# Altium integrated library Texas Instruments Interface RS-232.IntLib: 1272 symbols (part 20 of 37)
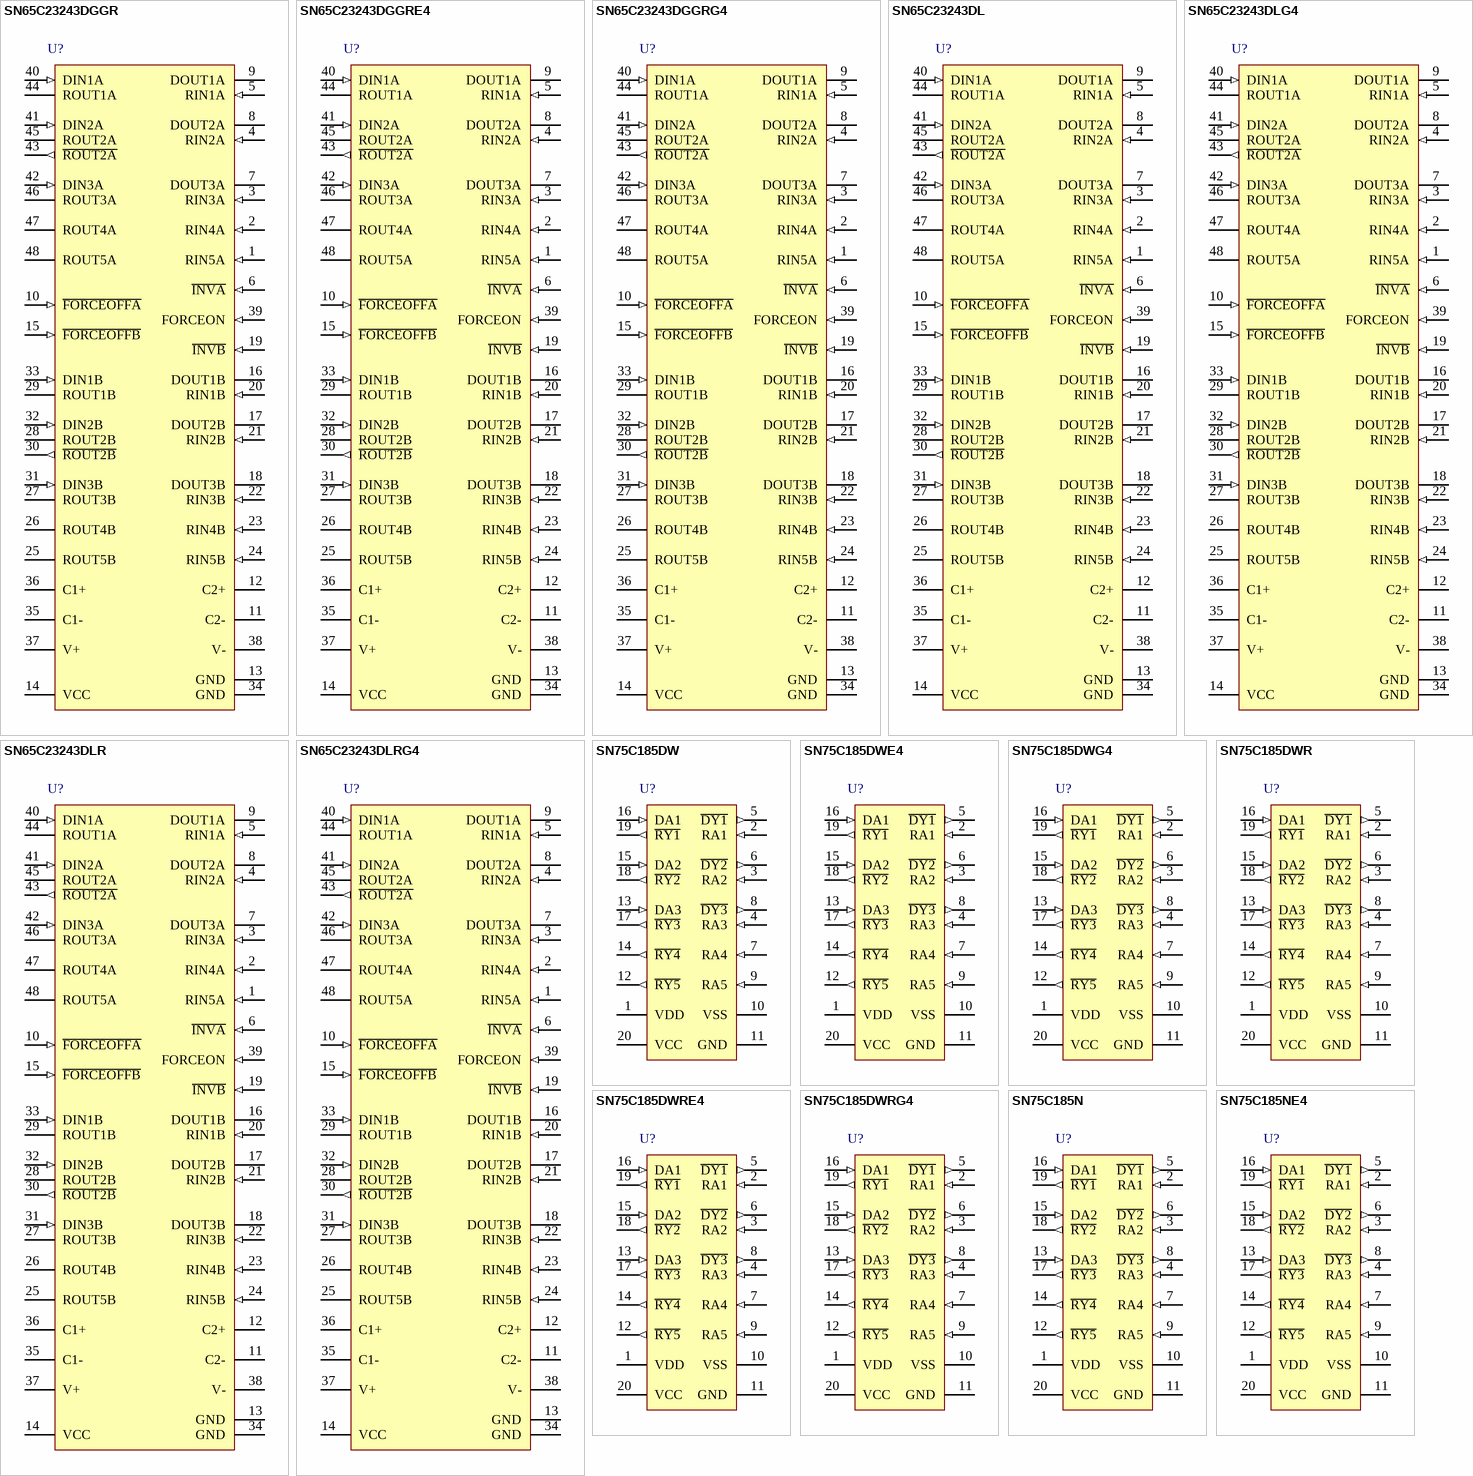
[diagram p73: symbols SN65C23243DGGR to SN75C185NE4]

## SN75C185DWE4
designator U?
Low-Power Multiple Driver / Receiver, 0 to 70 degC, 20-Pin SOIC (DW), Green (RoHS & no Sb/Br); SubFamily: RS-232; Drivers Per Package: 3; Receivers Per Package: 5; Supply Voltage(s)(V): +/-12.0 & 5.0; ESD HBM(kV): +/-2; ICC(Max)(mA): +/-0.25 & 0.75; RS-232: TRUE; DatasheetVersion: SLLS065F; PackageVersion: revG, Jan-2011; PackageReference: DW20; PackageDescription: 20-Pin Plastic Small Outline Integrated Circuit, 12.8 x 7.5 mm, Pitch 1.27 mm Pitch; ComponentLink1Description: Manufacturer URL; ComponentLink1URL: www.ti.com; ComponentLink2Description: Datasheet; ComponentLink2URL: http://www.ti.com/general/docs/lit/getliterature.tsp?genericPartNumber=SN75C185&fileType=pdf; ComponentLink3Description: Package Specification; ComponentLink3URL: http://www.ti.com/litv/pdf/mpds173a
footprint TI-DW20_N (SOIC, 20-Leads, Body 12.8x7.5mm, Pitch 1.27mm, IPC Medium Density)
footprint TI-DW20_L (SOIC, 20-Leads, Body 12.8x7.5mm, Pitch 1.27mm, IPC High Density)
footprint TI-DW20_M (SOIC, 20-Leads, Body 12.8x7.5mm, Pitch 1.27mm, IPC Low Density)
pins: 1 VDD (power), 2 RA1 (in), 3 RA2 (in), 4 RA3 (in), 5 ~{DY1} (out), 6 ~{DY2} (out), 7 RA4 (in), 8 ~{DY3} (out), 9 RA5 (in), 10 VSS (power), 11 GND (power), 12 ~{RY5} (out), 13 DA3 (in), 14 ~{RY4} (out), 15 DA2 (in), 16 DA1 (in), 17 ~{RY3} (out), 18 ~{RY2} (out), 19 ~{RY1} (out), 20 VCC (power)

## SN75C185DWG4
designator U?
Low-Power Multiple Driver / Receiver, 0 to 70 degC, 20-Pin SOIC (DW), Green (RoHS & no Sb/Br); SubFamily: RS-232; Drivers Per Package: 3; Receivers Per Package: 5; Supply Voltage(s)(V): +/-12.0 & 5.0; ESD HBM(kV): +/-2; ICC(Max)(mA): +/-0.25 & 0.75; RS-232: TRUE; DatasheetVersion: SLLS065F; PackageVersion: revG, Jan-2011; PackageReference: DW20; PackageDescription: 20-Pin Plastic Small Outline Integrated Circuit, 12.8 x 7.5 mm, Pitch 1.27 mm Pitch; ComponentLink1Description: Manufacturer URL; ComponentLink1URL: www.ti.com; ComponentLink2Description: Datasheet; ComponentLink2URL: http://www.ti.com/general/docs/lit/getliterature.tsp?genericPartNumber=SN75C185&fileType=pdf; ComponentLink3Description: Package Specification; ComponentLink3URL: http://www.ti.com/litv/pdf/mpds173a
footprint TI-DW20_N (SOIC, 20-Leads, Body 12.8x7.5mm, Pitch 1.27mm, IPC Medium Density)
footprint TI-DW20_L (SOIC, 20-Leads, Body 12.8x7.5mm, Pitch 1.27mm, IPC High Density)
footprint TI-DW20_M (SOIC, 20-Leads, Body 12.8x7.5mm, Pitch 1.27mm, IPC Low Density)
pins: 1 VDD (power), 2 RA1 (in), 3 RA2 (in), 4 RA3 (in), 5 ~{DY1} (out), 6 ~{DY2} (out), 7 RA4 (in), 8 ~{DY3} (out), 9 RA5 (in), 10 VSS (power), 11 GND (power), 12 ~{RY5} (out), 13 DA3 (in), 14 ~{RY4} (out), 15 DA2 (in), 16 DA1 (in), 17 ~{RY3} (out), 18 ~{RY2} (out), 19 ~{RY1} (out), 20 VCC (power)

## SN75C185DWR
designator U?
Low-Power Multiple Driver / Receiver, 0 to 70 degC, 20-Pin SOIC (DW), Green (RoHS & no Sb/Br); SubFamily: RS-232; Drivers Per Package: 3; Receivers Per Package: 5; Supply Voltage(s)(V): +/-12.0 & 5.0; ESD HBM(kV): +/-2; ICC(Max)(mA): +/-0.25 & 0.75; RS-232: TRUE; DatasheetVersion: SLLS065F; PackageVersion: revG, Jan-2011; PackageReference: DW20; PackageDescription: 20-Pin Plastic Small Outline Integrated Circuit, 12.8 x 7.5 mm, Pitch 1.27 mm Pitch; ComponentLink1Description: Manufacturer URL; ComponentLink1URL: www.ti.com; ComponentLink2Description: Datasheet; ComponentLink2URL: http://www.ti.com/general/docs/lit/getliterature.tsp?genericPartNumber=SN75C185&fileType=pdf; ComponentLink3Description: Package Specification; ComponentLink3URL: http://www.ti.com/litv/pdf/mpds173a
footprint TI-DW20_N (SOIC, 20-Leads, Body 12.8x7.5mm, Pitch 1.27mm, IPC Medium Density)
footprint TI-DW20_L (SOIC, 20-Leads, Body 12.8x7.5mm, Pitch 1.27mm, IPC High Density)
footprint TI-DW20_M (SOIC, 20-Leads, Body 12.8x7.5mm, Pitch 1.27mm, IPC Low Density)
pins: 1 VDD (power), 2 RA1 (in), 3 RA2 (in), 4 RA3 (in), 5 ~{DY1} (out), 6 ~{DY2} (out), 7 RA4 (in), 8 ~{DY3} (out), 9 RA5 (in), 10 VSS (power), 11 GND (power), 12 ~{RY5} (out), 13 DA3 (in), 14 ~{RY4} (out), 15 DA2 (in), 16 DA1 (in), 17 ~{RY3} (out), 18 ~{RY2} (out), 19 ~{RY1} (out), 20 VCC (power)

## SN75C185DWRE4
designator U?
Low-Power Multiple Driver / Receiver, 0 to 70 degC, 20-Pin SOIC (DW), Green (RoHS & no Sb/Br); SubFamily: RS-232; Drivers Per Package: 3; Receivers Per Package: 5; Supply Voltage(s)(V): +/-12.0 & 5.0; ESD HBM(kV): +/-2; ICC(Max)(mA): +/-0.25 & 0.75; RS-232: TRUE; DatasheetVersion: SLLS065F; PackageVersion: revG, Jan-2011; PackageReference: DW20; PackageDescription: 20-Pin Plastic Small Outline Integrated Circuit, 12.8 x 7.5 mm, Pitch 1.27 mm Pitch; ComponentLink1Description: Manufacturer URL; ComponentLink1URL: www.ti.com; ComponentLink2Description: Datasheet; ComponentLink2URL: http://www.ti.com/general/docs/lit/getliterature.tsp?genericPartNumber=SN75C185&fileType=pdf; ComponentLink3Description: Package Specification; ComponentLink3URL: http://www.ti.com/litv/pdf/mpds173a
footprint TI-DW20_N (SOIC, 20-Leads, Body 12.8x7.5mm, Pitch 1.27mm, IPC Medium Density)
footprint TI-DW20_L (SOIC, 20-Leads, Body 12.8x7.5mm, Pitch 1.27mm, IPC High Density)
footprint TI-DW20_M (SOIC, 20-Leads, Body 12.8x7.5mm, Pitch 1.27mm, IPC Low Density)
pins: 1 VDD (power), 2 RA1 (in), 3 RA2 (in), 4 RA3 (in), 5 ~{DY1} (out), 6 ~{DY2} (out), 7 RA4 (in), 8 ~{DY3} (out), 9 RA5 (in), 10 VSS (power), 11 GND (power), 12 ~{RY5} (out), 13 DA3 (in), 14 ~{RY4} (out), 15 DA2 (in), 16 DA1 (in), 17 ~{RY3} (out), 18 ~{RY2} (out), 19 ~{RY1} (out), 20 VCC (power)

## SN75C185DWRG4
designator U?
Low-Power Multiple Driver / Receiver, 0 to 70 degC, 20-Pin SOIC (DW), Green (RoHS & no Sb/Br); SubFamily: RS-232; Drivers Per Package: 3; Receivers Per Package: 5; Supply Voltage(s)(V): +/-12.0 & 5.0; ESD HBM(kV): +/-2; ICC(Max)(mA): +/-0.25 & 0.75; RS-232: TRUE; DatasheetVersion: SLLS065F; PackageVersion: revG, Jan-2011; PackageReference: DW20; PackageDescription: 20-Pin Plastic Small Outline Integrated Circuit, 12.8 x 7.5 mm, Pitch 1.27 mm Pitch; ComponentLink1Description: Manufacturer URL; ComponentLink1URL: www.ti.com; ComponentLink2Description: Datasheet; ComponentLink2URL: http://www.ti.com/general/docs/lit/getliterature.tsp?genericPartNumber=SN75C185&fileType=pdf; ComponentLink3Description: Package Specification; ComponentLink3URL: http://www.ti.com/litv/pdf/mpds173a
footprint TI-DW20_N (SOIC, 20-Leads, Body 12.8x7.5mm, Pitch 1.27mm, IPC Medium Density)
footprint TI-DW20_L (SOIC, 20-Leads, Body 12.8x7.5mm, Pitch 1.27mm, IPC High Density)
footprint TI-DW20_M (SOIC, 20-Leads, Body 12.8x7.5mm, Pitch 1.27mm, IPC Low Density)
pins: 1 VDD (power), 2 RA1 (in), 3 RA2 (in), 4 RA3 (in), 5 ~{DY1} (out), 6 ~{DY2} (out), 7 RA4 (in), 8 ~{DY3} (out), 9 RA5 (in), 10 VSS (power), 11 GND (power), 12 ~{RY5} (out), 13 DA3 (in), 14 ~{RY4} (out), 15 DA2 (in), 16 DA1 (in), 17 ~{RY3} (out), 18 ~{RY2} (out), 19 ~{RY1} (out), 20 VCC (power)

## SN75C185N
designator U?
Low-Power Multiple Driver / Receiver, 0 to 70 degC, 20-Pin PDIP (N), Pb-Free (RoHS); SubFamily: RS-232; Drivers Per Package: 3; Receivers Per Package: 5; Supply Voltage(s)(V): +/-12.0 & 5.0; ESD HBM(kV): +/-2; ICC(Max)(mA): +/-0.25 & 0.75; RS-232: TRUE; DatasheetVersion: SLLS065F; PackageVersion: revE, Dec-2002; PackageReference: N20; PackageDescription: 20-Pin Plastic Dual-In-Line Package, Row Spacing 7.62 mm, Pitch 2.54 mm; ComponentLink1Description: Manufacturer URL; ComponentLink1URL: www.ti.com; ComponentLink2Description: Datasheet; ComponentLink2URL: http://www.ti.com/general/docs/lit/getliterature.tsp?genericPartNumber=SN75C185&fileType=pdf; ComponentLink3Description: Package Specification; ComponentLink3URL: http://www.ti.com/litv/pdf/mpdi002c
footprint TI-N20 (DIP, 20-Leads, Row Spacing 7.62mm, Pitch 2.54mm, Body 25.4x6.4mm)
pins: 1 VDD (power), 2 RA1 (in), 3 RA2 (in), 4 RA3 (in), 5 ~{DY1} (out), 6 ~{DY2} (out), 7 RA4 (in), 8 ~{DY3} (out), 9 RA5 (in), 10 VSS (power), 11 GND (power), 12 ~{RY5} (out), 13 DA3 (in), 14 ~{RY4} (out), 15 DA2 (in), 16 DA1 (in), 17 ~{RY3} (out), 18 ~{RY2} (out), 19 ~{RY1} (out), 20 VCC (power)

## SN75C185NE4
designator U?
Low-Power Multiple Driver / Receiver, 0 to 70 degC, 20-Pin PDIP (N), Pb-Free (RoHS); SubFamily: RS-232; Drivers Per Package: 3; Receivers Per Package: 5; Supply Voltage(s)(V): +/-12.0 & 5.0; ESD HBM(kV): +/-2; ICC(Max)(mA): +/-0.25 & 0.75; RS-232: TRUE; DatasheetVersion: SLLS065F; PackageVersion: revE, Dec-2002; PackageReference: N20; PackageDescription: 20-Pin Plastic Dual-In-Line Package, Row Spacing 7.62 mm, Pitch 2.54 mm; ComponentLink1Description: Manufacturer URL; ComponentLink1URL: www.ti.com; ComponentLink2Description: Datasheet; ComponentLink2URL: http://www.ti.com/general/docs/lit/getliterature.tsp?genericPartNumber=SN75C185&fileType=pdf; ComponentLink3Description: Package Specification; ComponentLink3URL: http://www.ti.com/litv/pdf/mpdi002c
footprint TI-N20 (DIP, 20-Leads, Row Spacing 7.62mm, Pitch 2.54mm, Body 25.4x6.4mm)
pins: 1 VDD (power), 2 RA1 (in), 3 RA2 (in), 4 RA3 (in), 5 ~{DY1} (out), 6 ~{DY2} (out), 7 RA4 (in), 8 ~{DY3} (out), 9 RA5 (in), 10 VSS (power), 11 GND (power), 12 ~{RY5} (out), 13 DA3 (in), 14 ~{RY4} (out), 15 DA2 (in), 16 DA1 (in), 17 ~{RY3} (out), 18 ~{RY2} (out), 19 ~{RY1} (out), 20 VCC (power)

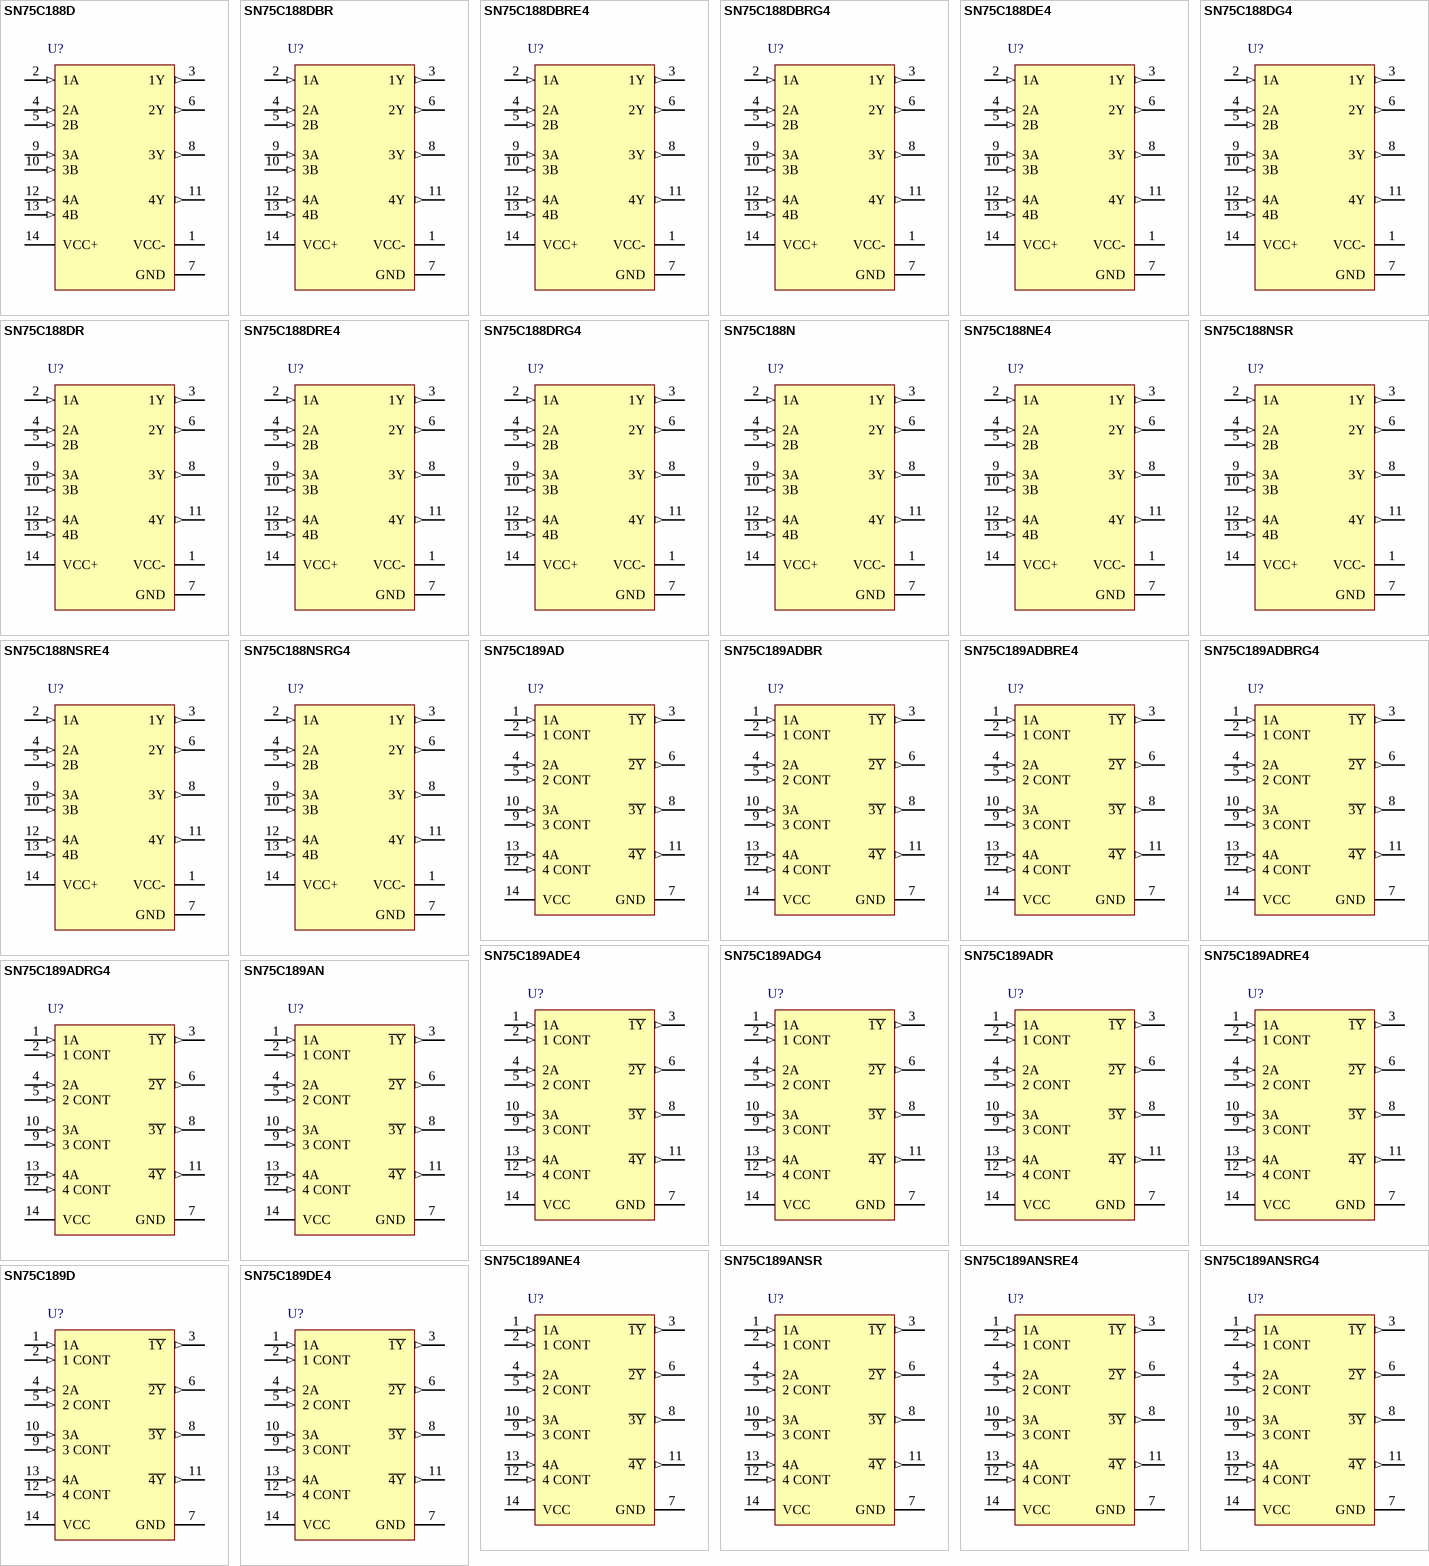
[diagram p29: symbols SN75C188D to SN75C189DE4]

## SN75C188D
designator U?
Quadruple Low-Power Line Driver, 14-Pin  SOIC (D),  Green (RoHS & no Sb/Br); SubFamily: RS-232; Drivers Per Package: 4; Supply Voltage(s)(V): +/-12.0; ESD HBM(kV): +/-2; ICC(Max)(mA): +/-0.16; RS-232: TRUE; DatasheetVersion: SLLS033F; PackageVersion: revM, Jun-2011; PackageReference: D14; PackageDescription: 14-Pin Plastic Small Outline Integrated Circuit, 8.7 x 3.9 mm, Pitch 1.27 mm Pitch; ComponentLink1Description: Manufacturer URL; ComponentLink1URL: www.ti.com; ComponentLink2Description: Datasheet; ComponentLink2URL: http://www.ti.com/general/docs/lit/getliterature.tsp?genericPartNumber=SN75C188&fileType=pdf; ComponentLink3Description: Package Specification; ComponentLink3URL: http://www.ti.com/litv/pdf/mpds177g
footprint TI-D14_N (SOIC, 14-Leads, Body 8.7x3.9mm, Pitch 1.27mm, IPC Medium Density)
footprint TI-D14_L (SOIC, 14-Leads, Body 8.7x3.9mm, Pitch 1.27mm, IPC High Density)
footprint TI-D14_M (SOIC, 14-Leads, Body 8.7x3.9mm, Pitch 1.27mm, IPC Low Density)
pins: 1 VCC- (power), 2 1A (in), 3 1Y (out), 4 2A (in), 5 2B (in), 6 2Y (out), 7 GND (power), 8 3Y (out), 9 3A (in), 10 3B (in), 11 4Y (out), 12 4A (in), 13 4B (in), 14 VCC+ (power)

## SN75C188DBR
designator U?
Quadruple Low-Power Line Driver, 0 to 70 degC, 14-Pin  SSOP (DB),  Green (RoHS & no Sb/Br); SubFamily: RS-232; Drivers Per Package: 4; Supply Voltage(s)(V): +/-12.0; ESD HBM(kV): +/-2; ICC(Max)(mA): +/-0.16; RS-232: TRUE; DatasheetVersion: SLLS033F; PackageVersion: revE, Dec-2001; PackageReference: DB14; PackageDescription: 14-Pin Plastic Small Outline Package, 6.2 x 5.3 mm Body, 0.65 mm Pitch; ComponentLink1Description: Manufacturer URL; ComponentLink1URL: www.ti.com; ComponentLink2Description: Datasheet; ComponentLink2URL: http://www.ti.com/general/docs/lit/getliterature.tsp?genericPartNumber=SN75C188&fileType=pdf; ComponentLink3Description: Package Specification; ComponentLink3URL: http://www.ti.com/litv/pdf/msso002e
footprint TI-DB14_N (SOP, 14-Leads, Body 6.2x5.3mm, Pitch 0.65mm, IPC Medium Density)
footprint TI-DB14_L (SOP, 14-Leads, Body 6.2x5.3mm, Pitch 0.65mm, IPC High Density)
footprint TI-DB14_M (SOP, 14-Leads, Body 6.2x5.3mm, Pitch 0.65mm, IPC Low Density)
pins: 1 VCC- (power), 2 1A (in), 3 1Y (out), 4 2A (in), 5 2B (in), 6 2Y (out), 7 GND (power), 8 3Y (out), 9 3A (in), 10 3B (in), 11 4Y (out), 12 4A (in), 13 4B (in), 14 VCC+ (power)

## SN75C188DBRE4
designator U?
Quadruple Low-Power Line Driver, 0 to 70 degC, 14-Pin  SSOP (DB),  Green (RoHS & no Sb/Br); SubFamily: RS-232; Drivers Per Package: 4; Supply Voltage(s)(V): +/-12.0; ESD HBM(kV): +/-2; ICC(Max)(mA): +/-0.16; RS-232: TRUE; DatasheetVersion: SLLS033F; PackageVersion: revE, Dec-2001; PackageReference: DB14; PackageDescription: 14-Pin Plastic Small Outline Package, 6.2 x 5.3 mm Body, 0.65 mm Pitch; ComponentLink1Description: Manufacturer URL; ComponentLink1URL: www.ti.com; ComponentLink2Description: Datasheet; ComponentLink2URL: http://www.ti.com/general/docs/lit/getliterature.tsp?genericPartNumber=SN75C188&fileType=pdf; ComponentLink3Description: Package Specification; ComponentLink3URL: http://www.ti.com/litv/pdf/msso002e
footprint TI-DB14_N (SOP, 14-Leads, Body 6.2x5.3mm, Pitch 0.65mm, IPC Medium Density)
footprint TI-DB14_L (SOP, 14-Leads, Body 6.2x5.3mm, Pitch 0.65mm, IPC High Density)
footprint TI-DB14_M (SOP, 14-Leads, Body 6.2x5.3mm, Pitch 0.65mm, IPC Low Density)
pins: 1 VCC- (power), 2 1A (in), 3 1Y (out), 4 2A (in), 5 2B (in), 6 2Y (out), 7 GND (power), 8 3Y (out), 9 3A (in), 10 3B (in), 11 4Y (out), 12 4A (in), 13 4B (in), 14 VCC+ (power)

## SN75C188DBRG4
designator U?
Quadruple Low-Power Line Driver, 0 to 70 degC, 14-Pin  SSOP (DB),  Green (RoHS & no Sb/Br); SubFamily: RS-232; Drivers Per Package: 4; Supply Voltage(s)(V): +/-12.0; ESD HBM(kV): +/-2; ICC(Max)(mA): +/-0.16; RS-232: TRUE; DatasheetVersion: SLLS033F; PackageVersion: revE, Dec-2001; PackageReference: DB14; PackageDescription: 14-Pin Plastic Small Outline Package, 6.2 x 5.3 mm Body, 0.65 mm Pitch; ComponentLink1Description: Manufacturer URL; ComponentLink1URL: www.ti.com; ComponentLink2Description: Datasheet; ComponentLink2URL: http://www.ti.com/general/docs/lit/getliterature.tsp?genericPartNumber=SN75C188&fileType=pdf; ComponentLink3Description: Package Specification; ComponentLink3URL: http://www.ti.com/litv/pdf/msso002e
footprint TI-DB14_N (SOP, 14-Leads, Body 6.2x5.3mm, Pitch 0.65mm, IPC Medium Density)
footprint TI-DB14_L (SOP, 14-Leads, Body 6.2x5.3mm, Pitch 0.65mm, IPC High Density)
footprint TI-DB14_M (SOP, 14-Leads, Body 6.2x5.3mm, Pitch 0.65mm, IPC Low Density)
pins: 1 VCC- (power), 2 1A (in), 3 1Y (out), 4 2A (in), 5 2B (in), 6 2Y (out), 7 GND (power), 8 3Y (out), 9 3A (in), 10 3B (in), 11 4Y (out), 12 4A (in), 13 4B (in), 14 VCC+ (power)

## SN75C188DE4
designator U?
Quadruple Low-Power Line Driver, 0 to 70 degC, 14-Pin  SOIC (D),  Green (RoHS & no Sb/Br); SubFamily: RS-232; Drivers Per Package: 4; Supply Voltage(s)(V): +/-12.0; ESD HBM(kV): +/-2; ICC(Max)(mA): +/-0.16; RS-232: TRUE; DatasheetVersion: SLLS033F; PackageVersion: revM, Jun-2011; PackageReference: D14; PackageDescription: 14-Pin Plastic Small Outline Integrated Circuit, 8.7 x 3.9 mm, Pitch 1.27 mm Pitch; ComponentLink1Description: Manufacturer URL; ComponentLink1URL: www.ti.com; ComponentLink2Description: Datasheet; ComponentLink2URL: http://www.ti.com/general/docs/lit/getliterature.tsp?genericPartNumber=SN75C188&fileType=pdf; ComponentLink3Description: Package Specification; ComponentLink3URL: http://www.ti.com/litv/pdf/mpds177g
footprint TI-D14_N (SOIC, 14-Leads, Body 8.7x3.9mm, Pitch 1.27mm, IPC Medium Density)
footprint TI-D14_L (SOIC, 14-Leads, Body 8.7x3.9mm, Pitch 1.27mm, IPC High Density)
footprint TI-D14_M (SOIC, 14-Leads, Body 8.7x3.9mm, Pitch 1.27mm, IPC Low Density)
pins: 1 VCC- (power), 2 1A (in), 3 1Y (out), 4 2A (in), 5 2B (in), 6 2Y (out), 7 GND (power), 8 3Y (out), 9 3A (in), 10 3B (in), 11 4Y (out), 12 4A (in), 13 4B (in), 14 VCC+ (power)

## SN75C188DG4
designator U?
Quadruple Low-Power Line Driver, 0 to 70 degC, 14-Pin  SOIC (D),  Green (RoHS & no Sb/Br); SubFamily: RS-232; Drivers Per Package: 4; Supply Voltage(s)(V): +/-12.0; ESD HBM(kV): +/-2; ICC(Max)(mA): +/-0.16; RS-232: TRUE; DatasheetVersion: SLLS033F; PackageVersion: revM, Jun-2011; PackageReference: D14; PackageDescription: 14-Pin Plastic Small Outline Integrated Circuit, 8.7 x 3.9 mm, Pitch 1.27 mm Pitch; ComponentLink1Description: Manufacturer URL; ComponentLink1URL: www.ti.com; ComponentLink2Description: Datasheet; ComponentLink2URL: http://www.ti.com/general/docs/lit/getliterature.tsp?genericPartNumber=SN75C188&fileType=pdf; ComponentLink3Description: Package Specification; ComponentLink3URL: http://www.ti.com/litv/pdf/mpds177g
footprint TI-D14_N (SOIC, 14-Leads, Body 8.7x3.9mm, Pitch 1.27mm, IPC Medium Density)
footprint TI-D14_L (SOIC, 14-Leads, Body 8.7x3.9mm, Pitch 1.27mm, IPC High Density)
footprint TI-D14_M (SOIC, 14-Leads, Body 8.7x3.9mm, Pitch 1.27mm, IPC Low Density)
pins: 1 VCC- (power), 2 1A (in), 3 1Y (out), 4 2A (in), 5 2B (in), 6 2Y (out), 7 GND (power), 8 3Y (out), 9 3A (in), 10 3B (in), 11 4Y (out), 12 4A (in), 13 4B (in), 14 VCC+ (power)

## SN75C188DR
designator U?
Quadruple Low-Power Line Driver, 0 to 70 degC, 14-Pin  SOIC (D),  Green (RoHS & no Sb/Br); SubFamily: RS-232; Drivers Per Package: 4; Supply Voltage(s)(V): +/-12.0; ESD HBM(kV): +/-2; ICC(Max)(mA): +/-0.16; RS-232: TRUE; DatasheetVersion: SLLS033F; PackageVersion: revM, Jun-2011; PackageReference: D14; PackageDescription: 14-Pin Plastic Small Outline Integrated Circuit, 8.7 x 3.9 mm, Pitch 1.27 mm Pitch; ComponentLink1Description: Manufacturer URL; ComponentLink1URL: www.ti.com; ComponentLink2Description: Datasheet; ComponentLink2URL: http://www.ti.com/general/docs/lit/getliterature.tsp?genericPartNumber=SN75C188&fileType=pdf; ComponentLink3Description: Package Specification; ComponentLink3URL: http://www.ti.com/litv/pdf/mpds177g
footprint TI-D14_N (SOIC, 14-Leads, Body 8.7x3.9mm, Pitch 1.27mm, IPC Medium Density)
footprint TI-D14_L (SOIC, 14-Leads, Body 8.7x3.9mm, Pitch 1.27mm, IPC High Density)
footprint TI-D14_M (SOIC, 14-Leads, Body 8.7x3.9mm, Pitch 1.27mm, IPC Low Density)
pins: 1 VCC- (power), 2 1A (in), 3 1Y (out), 4 2A (in), 5 2B (in), 6 2Y (out), 7 GND (power), 8 3Y (out), 9 3A (in), 10 3B (in), 11 4Y (out), 12 4A (in), 13 4B (in), 14 VCC+ (power)

## SN75C188DRE4
designator U?
Quadruple Low-Power Line Driver, 0 to 70 degC, 14-Pin  SOIC (D), TBD; SubFamily: RS-232; Drivers Per Package: 4; Supply Voltage(s)(V): +/-12.0; ESD HBM(kV): +/-2; ICC(Max)(mA): +/-0.16; RS-232: TRUE; DatasheetVersion: SLLS033F; PackageVersion: revM, Jun-2011; PackageReference: D14; PackageDescription: 14-Pin Plastic Small Outline Integrated Circuit, 8.7 x 3.9 mm, Pitch 1.27 mm Pitch; ComponentLink1Description: Manufacturer URL; ComponentLink1URL: www.ti.com; ComponentLink2Description: Datasheet; ComponentLink2URL: http://www.ti.com/general/docs/lit/getliterature.tsp?genericPartNumber=SN75C188&fileType=pdf; ComponentLink3Description: Package Specification; ComponentLink3URL: http://www.ti.com/litv/pdf/mpds177g
footprint TI-D14_N (SOIC, 14-Leads, Body 8.7x3.9mm, Pitch 1.27mm, IPC Medium Density)
footprint TI-D14_L (SOIC, 14-Leads, Body 8.7x3.9mm, Pitch 1.27mm, IPC High Density)
footprint TI-D14_M (SOIC, 14-Leads, Body 8.7x3.9mm, Pitch 1.27mm, IPC Low Density)
pins: 1 VCC- (power), 2 1A (in), 3 1Y (out), 4 2A (in), 5 2B (in), 6 2Y (out), 7 GND (power), 8 3Y (out), 9 3A (in), 10 3B (in), 11 4Y (out), 12 4A (in), 13 4B (in), 14 VCC+ (power)

## SN75C188DRG4
designator U?
Quadruple Low-Power Line Driver, 0 to 70 degC, 14-Pin  SOIC (D),  Green (RoHS & no Sb/Br); SubFamily: RS-232; Drivers Per Package: 4; Supply Voltage(s)(V): +/-12.0; ESD HBM(kV): +/-2; ICC(Max)(mA): +/-0.16; RS-232: TRUE; DatasheetVersion: SLLS033F; PackageVersion: revM, Jun-2011; PackageReference: D14; PackageDescription: 14-Pin Plastic Small Outline Integrated Circuit, 8.7 x 3.9 mm, Pitch 1.27 mm Pitch; ComponentLink1Description: Manufacturer URL; ComponentLink1URL: www.ti.com; ComponentLink2Description: Datasheet; ComponentLink2URL: http://www.ti.com/general/docs/lit/getliterature.tsp?genericPartNumber=SN75C188&fileType=pdf; ComponentLink3Description: Package Specification; ComponentLink3URL: http://www.ti.com/litv/pdf/mpds177g
footprint TI-D14_N (SOIC, 14-Leads, Body 8.7x3.9mm, Pitch 1.27mm, IPC Medium Density)
footprint TI-D14_L (SOIC, 14-Leads, Body 8.7x3.9mm, Pitch 1.27mm, IPC High Density)
footprint TI-D14_M (SOIC, 14-Leads, Body 8.7x3.9mm, Pitch 1.27mm, IPC Low Density)
pins: 1 VCC- (power), 2 1A (in), 3 1Y (out), 4 2A (in), 5 2B (in), 6 2Y (out), 7 GND (power), 8 3Y (out), 9 3A (in), 10 3B (in), 11 4Y (out), 12 4A (in), 13 4B (in), 14 VCC+ (power)

## SN75C188N
designator U?
Quadruple Low-Power Line Driver, 0 to 70 degC, 14-Pin  PDIP (N),  Pb-Free (RoHS); SubFamily: RS-232; Drivers Per Package: 4; Supply Voltage(s)(V): +/-12.0; ESD HBM(kV): +/-2; ICC(Max)(mA): +/-0.16; RS-232: TRUE; DatasheetVersion: SLLS033F; PackageVersion: revE, Dec-2002; PackageReference: N14; PackageDescription: 14-Pin Plastic Dual-In-Line Package, Row Spacing 7.62 mm, Pitch 2.54 mm; ComponentLink1Description: Manufacturer URL; ComponentLink1URL: www.ti.com; ComponentLink2Description: Datasheet; ComponentLink2URL: http://www.ti.com/general/docs/lit/getliterature.tsp?genericPartNumber=SN75C188&fileType=pdf; ComponentLink3Description: Package Specification; ComponentLink3URL: http://www.ti.com/litv/pdf/mpdi002c
footprint TI-N14 (DIP, 14-Leads, Row Spacing 7.62mm, Pitch 2.54mm, Body 19.3x6.4mm)
pins: 1 VCC- (power), 2 1A (in), 3 1Y (out), 4 2A (in), 5 2B (in), 6 2Y (out), 7 GND (power), 8 3Y (out), 9 3A (in), 10 3B (in), 11 4Y (out), 12 4A (in), 13 4B (in), 14 VCC+ (power)

## SN75C188NE4
designator U?
Quadruple Low-Power Line Driver, 0 to 70 degC, 14-Pin  PDIP (N), TBD; SubFamily: RS-232; Drivers Per Package: 4; Supply Voltage(s)(V): +/-12.0; ESD HBM(kV): +/-2; ICC(Max)(mA): +/-0.16; RS-232: TRUE; DatasheetVersion: SLLS033F; PackageVersion: revE, Dec-2002; PackageReference: N14; PackageDescription: 14-Pin Plastic Dual-In-Line Package, Row Spacing 7.62 mm, Pitch 2.54 mm; ComponentLink1Description: Manufacturer URL; ComponentLink1URL: www.ti.com; ComponentLink2Description: Datasheet; ComponentLink2URL: http://www.ti.com/general/docs/lit/getliterature.tsp?genericPartNumber=SN75C188&fileType=pdf; ComponentLink3Description: Package Specification; ComponentLink3URL: http://www.ti.com/litv/pdf/mpdi002c
footprint TI-N14 (DIP, 14-Leads, Row Spacing 7.62mm, Pitch 2.54mm, Body 19.3x6.4mm)
pins: 1 VCC- (power), 2 1A (in), 3 1Y (out), 4 2A (in), 5 2B (in), 6 2Y (out), 7 GND (power), 8 3Y (out), 9 3A (in), 10 3B (in), 11 4Y (out), 12 4A (in), 13 4B (in), 14 VCC+ (power)

## SN75C188NSR
designator U?
Quadruple Low-Power Line Driver, 0 to 70 degC, 14-Pin  SO (NS),  Green (RoHS & no Sb/Br); SubFamily: RS-232; Drivers Per Package: 4; Supply Voltage(s)(V): +/-12.0; ESD HBM(kV): +/-2; ICC(Max)(mA): +/-0.16; RS-232: TRUE; DatasheetVersion: SLLS033F; PackageVersion: revC, Mar-2003; PackageReference: NS14; PackageDescription: 14-Pin Plastic Small Outline Package, 10.2 x 5.3 mm Body, 1.27 mm Pitch; ComponentLink1Description: Manufacturer URL; ComponentLink1URL: www.ti.com; ComponentLink2Description: Datasheet; ComponentLink2URL: http://www.ti.com/general/docs/lit/getliterature.tsp?genericPartNumber=SN75C188&fileType=pdf; ComponentLink3Description: Package Specification; ComponentLink3URL: http://www.ti.com/litv/pdf/msop002a
footprint TI-NS14_N (SOP, 14-Leads, Body 10.2x5.3mm, Pitch 1.27mm, IPC Medium Density)
footprint TI-NS14_L (SOP, 14-Leads, Body 10.2x5.3mm, Pitch 1.27mm, IPC High Density)
footprint TI-NS14_M (SOP, 14-Leads, Body 10.2x5.3mm, Pitch 1.27mm, IPC Low Density)
pins: 1 VCC- (power), 2 1A (in), 3 1Y (out), 4 2A (in), 5 2B (in), 6 2Y (out), 7 GND (power), 8 3Y (out), 9 3A (in), 10 3B (in), 11 4Y (out), 12 4A (in), 13 4B (in), 14 VCC+ (power)

## SN75C188NSRE4
designator U?
Quadruple Low-Power Line Driver, 0 to 70 degC, 14-Pin  SO (NS),  Green (RoHS & no Sb/Br); SubFamily: RS-232; Drivers Per Package: 4; Supply Voltage(s)(V): +/-12.0; ESD HBM(kV): +/-2; ICC(Max)(mA): +/-0.16; RS-232: TRUE; DatasheetVersion: SLLS033F; PackageVersion: revC, Mar-2003; PackageReference: NS14; PackageDescription: 14-Pin Plastic Small Outline Package, 10.2 x 5.3 mm Body, 1.27 mm Pitch; ComponentLink1Description: Manufacturer URL; ComponentLink1URL: www.ti.com; ComponentLink2Description: Datasheet; ComponentLink2URL: http://www.ti.com/general/docs/lit/getliterature.tsp?genericPartNumber=SN75C188&fileType=pdf; ComponentLink3Description: Package Specification; ComponentLink3URL: http://www.ti.com/litv/pdf/msop002a
footprint TI-NS14_N (SOP, 14-Leads, Body 10.2x5.3mm, Pitch 1.27mm, IPC Medium Density)
footprint TI-NS14_L (SOP, 14-Leads, Body 10.2x5.3mm, Pitch 1.27mm, IPC High Density)
footprint TI-NS14_M (SOP, 14-Leads, Body 10.2x5.3mm, Pitch 1.27mm, IPC Low Density)
pins: 1 VCC- (power), 2 1A (in), 3 1Y (out), 4 2A (in), 5 2B (in), 6 2Y (out), 7 GND (power), 8 3Y (out), 9 3A (in), 10 3B (in), 11 4Y (out), 12 4A (in), 13 4B (in), 14 VCC+ (power)

## SN75C188NSRG4
designator U?
Quadruple Low-Power Line Driver, 0 to 70 degC, 14-Pin  SO (NS),  Green (RoHS & no Sb/Br); SubFamily: RS-232; Drivers Per Package: 4; Supply Voltage(s)(V): +/-12.0; ESD HBM(kV): +/-2; ICC(Max)(mA): +/-0.16; RS-232: TRUE; DatasheetVersion: SLLS033F; PackageVersion: revC, Mar-2003; PackageReference: NS14; PackageDescription: 14-Pin Plastic Small Outline Package, 10.2 x 5.3 mm Body, 1.27 mm Pitch; ComponentLink1Description: Manufacturer URL; ComponentLink1URL: www.ti.com; ComponentLink2Description: Datasheet; ComponentLink2URL: http://www.ti.com/general/docs/lit/getliterature.tsp?genericPartNumber=SN75C188&fileType=pdf; ComponentLink3Description: Package Specification; ComponentLink3URL: http://www.ti.com/litv/pdf/msop002a
footprint TI-NS14_N (SOP, 14-Leads, Body 10.2x5.3mm, Pitch 1.27mm, IPC Medium Density)
footprint TI-NS14_L (SOP, 14-Leads, Body 10.2x5.3mm, Pitch 1.27mm, IPC High Density)
footprint TI-NS14_M (SOP, 14-Leads, Body 10.2x5.3mm, Pitch 1.27mm, IPC Low Density)
pins: 1 VCC- (power), 2 1A (in), 3 1Y (out), 4 2A (in), 5 2B (in), 6 2Y (out), 7 GND (power), 8 3Y (out), 9 3A (in), 10 3B (in), 11 4Y (out), 12 4A (in), 13 4B (in), 14 VCC+ (power)

## SN75C189AD
designator U?
Quadruple Low-Power LIine Receiver, 14-Pin  SOIC (D),  Green (RoHS & no Sb/Br); SubFamily: RS-232; Receivers Per Package: 4; Supply Voltage(s)(V): 5; ICC(Max)(mA): 0.7; Single Supply: TRUE; DatasheetVersion: SLLS041G; PackageVersion: revM, Jun-2011; PackageReference: D14; PackageDescription: 14-Pin Plastic Small Outline Integrated Circuit, 8.7 x 3.9 mm, Pitch 1.27 mm Pitch; RS-232: TRUE; ComponentLink1Description: Manufacturer URL; ComponentLink1URL: www.ti.com; ComponentLink2Description: Datasheet; ComponentLink2URL: http://www.ti.com/general/docs/lit/getliterature.tsp?genericPartNumber=SN75C189A&fileType=pdf; ComponentLink3Description: Package Specification; ComponentLink3URL: http://www.ti.com/litv/pdf/mpds177g
footprint TI-D14_N (SOIC, 14-Leads, Body 8.7x3.9mm, Pitch 1.27mm, IPC Medium Density)
footprint TI-D14_L (SOIC, 14-Leads, Body 8.7x3.9mm, Pitch 1.27mm, IPC High Density)
footprint TI-D14_M (SOIC, 14-Leads, Body 8.7x3.9mm, Pitch 1.27mm, IPC Low Density)
pins: 1 1A (in), 2 1 CONT (in), 3 ~{1Y} (out), 4 2A (in), 5 2 CONT (in), 6 ~{2Y} (out), 7 GND (power), 8 ~{3Y} (out), 9 3 CONT (in), 10 3A (in), 11 ~{4Y} (out), 12 4 CONT (in), 13 4A (in), 14 VCC (power)

## SN75C189ADBR
designator U?
Quadruple Low-Power LIine Receiver, 0 to 70 degC, 14-Pin  SSOP (DB),  Green (RoHS & no Sb/Br); SubFamily: RS-232; Receivers Per Package: 4; Supply Voltage(s)(V): 5; ICC(Max)(mA): 0.7; Single Supply: TRUE; DatasheetVersion: SLLS041G; PackageVersion: revE, Dec-2001; PackageReference: DB14; PackageDescription: 14-Pin Plastic Small Outline Package, 6.2 x 5.3 mm Body, 0.65 mm Pitch; RS-232: TRUE; ComponentLink1Description: Manufacturer URL; ComponentLink1URL: www.ti.com; ComponentLink2Description: Datasheet; ComponentLink2URL: http://www.ti.com/general/docs/lit/getliterature.tsp?genericPartNumber=SN75C189A&fileType=pdf; ComponentLink3Description: Package Specification; ComponentLink3URL: http://www.ti.com/litv/pdf/msso002e
footprint TI-DB14_N (SOP, 14-Leads, Body 6.2x5.3mm, Pitch 0.65mm, IPC Medium Density)
footprint TI-DB14_L (SOP, 14-Leads, Body 6.2x5.3mm, Pitch 0.65mm, IPC High Density)
footprint TI-DB14_M (SOP, 14-Leads, Body 6.2x5.3mm, Pitch 0.65mm, IPC Low Density)
pins: 1 1A (in), 2 1 CONT (in), 3 ~{1Y} (out), 4 2A (in), 5 2 CONT (in), 6 ~{2Y} (out), 7 GND (power), 8 ~{3Y} (out), 9 3 CONT (in), 10 3A (in), 11 ~{4Y} (out), 12 4 CONT (in), 13 4A (in), 14 VCC (power)

## SN75C189ADBRE4
designator U?
Quadruple Low-Power LIine Receiver, 0 to 70 degC, 14-Pin  SSOP (DB),  Green (RoHS & no Sb/Br); SubFamily: RS-232; Receivers Per Package: 4; Supply Voltage(s)(V): 5; ICC(Max)(mA): 0.7; Single Supply: TRUE; DatasheetVersion: SLLS041G; PackageVersion: revE, Dec-2001; PackageReference: DB14; PackageDescription: 14-Pin Plastic Small Outline Package, 6.2 x 5.3 mm Body, 0.65 mm Pitch; RS-232: TRUE; ComponentLink1Description: Manufacturer URL; ComponentLink1URL: www.ti.com; ComponentLink2Description: Datasheet; ComponentLink2URL: http://www.ti.com/general/docs/lit/getliterature.tsp?genericPartNumber=SN75C189A&fileType=pdf; ComponentLink3Description: Package Specification; ComponentLink3URL: http://www.ti.com/litv/pdf/msso002e
footprint TI-DB14_N (SOP, 14-Leads, Body 6.2x5.3mm, Pitch 0.65mm, IPC Medium Density)
footprint TI-DB14_L (SOP, 14-Leads, Body 6.2x5.3mm, Pitch 0.65mm, IPC High Density)
footprint TI-DB14_M (SOP, 14-Leads, Body 6.2x5.3mm, Pitch 0.65mm, IPC Low Density)
pins: 1 1A (in), 2 1 CONT (in), 3 ~{1Y} (out), 4 2A (in), 5 2 CONT (in), 6 ~{2Y} (out), 7 GND (power), 8 ~{3Y} (out), 9 3 CONT (in), 10 3A (in), 11 ~{4Y} (out), 12 4 CONT (in), 13 4A (in), 14 VCC (power)

## SN75C189ADBRG4
designator U?
Quadruple Low-Power LIine Receiver, 0 to 70 degC, 14-Pin  SSOP (DB),  Green (RoHS & no Sb/Br); SubFamily: RS-232; Receivers Per Package: 4; Supply Voltage(s)(V): 5; ICC(Max)(mA): 0.7; Single Supply: TRUE; DatasheetVersion: SLLS041G; PackageVersion: revE, Dec-2001; PackageReference: DB14; PackageDescription: 14-Pin Plastic Small Outline Package, 6.2 x 5.3 mm Body, 0.65 mm Pitch; RS-232: TRUE; ComponentLink1Description: Manufacturer URL; ComponentLink1URL: www.ti.com; ComponentLink2Description: Datasheet; ComponentLink2URL: http://www.ti.com/general/docs/lit/getliterature.tsp?genericPartNumber=SN75C189A&fileType=pdf; ComponentLink3Description: Package Specification; ComponentLink3URL: http://www.ti.com/litv/pdf/msso002e
footprint TI-DB14_N (SOP, 14-Leads, Body 6.2x5.3mm, Pitch 0.65mm, IPC Medium Density)
footprint TI-DB14_L (SOP, 14-Leads, Body 6.2x5.3mm, Pitch 0.65mm, IPC High Density)
footprint TI-DB14_M (SOP, 14-Leads, Body 6.2x5.3mm, Pitch 0.65mm, IPC Low Density)
pins: 1 1A (in), 2 1 CONT (in), 3 ~{1Y} (out), 4 2A (in), 5 2 CONT (in), 6 ~{2Y} (out), 7 GND (power), 8 ~{3Y} (out), 9 3 CONT (in), 10 3A (in), 11 ~{4Y} (out), 12 4 CONT (in), 13 4A (in), 14 VCC (power)

## SN75C189ADE4
designator U?
Quadruple Low-Power LIine Receiver, 0 to 70 degC, 14-Pin  SOIC (D),  Green (RoHS & no Sb/Br); SubFamily: RS-232; Receivers Per Package: 4; Supply Voltage(s)(V): 5; ICC(Max)(mA): 0.7; Single Supply: TRUE; DatasheetVersion: SLLS041G; PackageVersion: revM, Jun-2011; PackageReference: D14; PackageDescription: 14-Pin Plastic Small Outline Integrated Circuit, 8.7 x 3.9 mm, Pitch 1.27 mm Pitch; RS-232: TRUE; ComponentLink1Description: Manufacturer URL; ComponentLink1URL: www.ti.com; ComponentLink2Description: Datasheet; ComponentLink2URL: http://www.ti.com/general/docs/lit/getliterature.tsp?genericPartNumber=SN75C189A&fileType=pdf; ComponentLink3Description: Package Specification; ComponentLink3URL: http://www.ti.com/litv/pdf/mpds177g
footprint TI-D14_N (SOIC, 14-Leads, Body 8.7x3.9mm, Pitch 1.27mm, IPC Medium Density)
footprint TI-D14_L (SOIC, 14-Leads, Body 8.7x3.9mm, Pitch 1.27mm, IPC High Density)
footprint TI-D14_M (SOIC, 14-Leads, Body 8.7x3.9mm, Pitch 1.27mm, IPC Low Density)
pins: 1 1A (in), 2 1 CONT (in), 3 ~{1Y} (out), 4 2A (in), 5 2 CONT (in), 6 ~{2Y} (out), 7 GND (power), 8 ~{3Y} (out), 9 3 CONT (in), 10 3A (in), 11 ~{4Y} (out), 12 4 CONT (in), 13 4A (in), 14 VCC (power)

## SN75C189ADG4
designator U?
Quadruple Low-Power LIine Receiver, 0 to 70 degC, 14-Pin  SOIC (D),  Green (RoHS & no Sb/Br); SubFamily: RS-232; Receivers Per Package: 4; Supply Voltage(s)(V): 5; ICC(Max)(mA): 0.7; Single Supply: TRUE; DatasheetVersion: SLLS041G; PackageVersion: revM, Jun-2011; PackageReference: D14; PackageDescription: 14-Pin Plastic Small Outline Integrated Circuit, 8.7 x 3.9 mm, Pitch 1.27 mm Pitch; RS-232: TRUE; ComponentLink1Description: Manufacturer URL; ComponentLink1URL: www.ti.com; ComponentLink2Description: Datasheet; ComponentLink2URL: http://www.ti.com/general/docs/lit/getliterature.tsp?genericPartNumber=SN75C189A&fileType=pdf; ComponentLink3Description: Package Specification; ComponentLink3URL: http://www.ti.com/litv/pdf/mpds177g
footprint TI-D14_N (SOIC, 14-Leads, Body 8.7x3.9mm, Pitch 1.27mm, IPC Medium Density)
footprint TI-D14_L (SOIC, 14-Leads, Body 8.7x3.9mm, Pitch 1.27mm, IPC High Density)
footprint TI-D14_M (SOIC, 14-Leads, Body 8.7x3.9mm, Pitch 1.27mm, IPC Low Density)
pins: 1 1A (in), 2 1 CONT (in), 3 ~{1Y} (out), 4 2A (in), 5 2 CONT (in), 6 ~{2Y} (out), 7 GND (power), 8 ~{3Y} (out), 9 3 CONT (in), 10 3A (in), 11 ~{4Y} (out), 12 4 CONT (in), 13 4A (in), 14 VCC (power)

## SN75C189ADR
designator U?
Quadruple Low-Power LIine Receiver, 0 to 70 degC, 14-Pin  SOIC (D),  Green (RoHS & no Sb/Br); SubFamily: RS-232; Receivers Per Package: 4; Supply Voltage(s)(V): 5; ICC(Max)(mA): 0.7; Single Supply: TRUE; DatasheetVersion: SLLS041G; PackageVersion: revM, Jun-2011; PackageReference: D14; PackageDescription: 14-Pin Plastic Small Outline Integrated Circuit, 8.7 x 3.9 mm, Pitch 1.27 mm Pitch; RS-232: TRUE; ComponentLink1Description: Manufacturer URL; ComponentLink1URL: www.ti.com; ComponentLink2Description: Datasheet; ComponentLink2URL: http://www.ti.com/general/docs/lit/getliterature.tsp?genericPartNumber=SN75C189A&fileType=pdf; ComponentLink3Description: Package Specification; ComponentLink3URL: http://www.ti.com/litv/pdf/mpds177g
footprint TI-D14_N (SOIC, 14-Leads, Body 8.7x3.9mm, Pitch 1.27mm, IPC Medium Density)
footprint TI-D14_L (SOIC, 14-Leads, Body 8.7x3.9mm, Pitch 1.27mm, IPC High Density)
footprint TI-D14_M (SOIC, 14-Leads, Body 8.7x3.9mm, Pitch 1.27mm, IPC Low Density)
pins: 1 1A (in), 2 1 CONT (in), 3 ~{1Y} (out), 4 2A (in), 5 2 CONT (in), 6 ~{2Y} (out), 7 GND (power), 8 ~{3Y} (out), 9 3 CONT (in), 10 3A (in), 11 ~{4Y} (out), 12 4 CONT (in), 13 4A (in), 14 VCC (power)

## SN75C189ADRE4
designator U?
Quadruple Low-Power LIine Receiver, 0 to 70 degC, 14-Pin  SOIC (D),  Green (RoHS & no Sb/Br); SubFamily: RS-232; Receivers Per Package: 4; Supply Voltage(s)(V): 5; ICC(Max)(mA): 0.7; Single Supply: TRUE; DatasheetVersion: SLLS041G; PackageVersion: revM, Jun-2011; PackageReference: D14; PackageDescription: 14-Pin Plastic Small Outline Integrated Circuit, 8.7 x 3.9 mm, Pitch 1.27 mm Pitch; RS-232: TRUE; ComponentLink1Description: Manufacturer URL; ComponentLink1URL: www.ti.com; ComponentLink2Description: Datasheet; ComponentLink2URL: http://www.ti.com/general/docs/lit/getliterature.tsp?genericPartNumber=SN75C189A&fileType=pdf; ComponentLink3Description: Package Specification; ComponentLink3URL: http://www.ti.com/litv/pdf/mpds177g
footprint TI-D14_N (SOIC, 14-Leads, Body 8.7x3.9mm, Pitch 1.27mm, IPC Medium Density)
footprint TI-D14_L (SOIC, 14-Leads, Body 8.7x3.9mm, Pitch 1.27mm, IPC High Density)
footprint TI-D14_M (SOIC, 14-Leads, Body 8.7x3.9mm, Pitch 1.27mm, IPC Low Density)
pins: 1 1A (in), 2 1 CONT (in), 3 ~{1Y} (out), 4 2A (in), 5 2 CONT (in), 6 ~{2Y} (out), 7 GND (power), 8 ~{3Y} (out), 9 3 CONT (in), 10 3A (in), 11 ~{4Y} (out), 12 4 CONT (in), 13 4A (in), 14 VCC (power)

## SN75C189ADRG4
designator U?
Quadruple Low-Power LIine Receiver, 0 to 70 degC, 14-Pin  SOIC (D),  Green (RoHS & no Sb/Br); SubFamily: RS-232; Receivers Per Package: 4; Supply Voltage(s)(V): 5; ICC(Max)(mA): 0.7; Single Supply: TRUE; DatasheetVersion: SLLS041G; PackageVersion: revM, Jun-2011; PackageReference: D14; PackageDescription: 14-Pin Plastic Small Outline Integrated Circuit, 8.7 x 3.9 mm, Pitch 1.27 mm Pitch; RS-232: TRUE; ComponentLink1Description: Manufacturer URL; ComponentLink1URL: www.ti.com; ComponentLink2Description: Datasheet; ComponentLink2URL: http://www.ti.com/general/docs/lit/getliterature.tsp?genericPartNumber=SN75C189A&fileType=pdf; ComponentLink3Description: Package Specification; ComponentLink3URL: http://www.ti.com/litv/pdf/mpds177g
footprint TI-D14_N (SOIC, 14-Leads, Body 8.7x3.9mm, Pitch 1.27mm, IPC Medium Density)
footprint TI-D14_L (SOIC, 14-Leads, Body 8.7x3.9mm, Pitch 1.27mm, IPC High Density)
footprint TI-D14_M (SOIC, 14-Leads, Body 8.7x3.9mm, Pitch 1.27mm, IPC Low Density)
pins: 1 1A (in), 2 1 CONT (in), 3 ~{1Y} (out), 4 2A (in), 5 2 CONT (in), 6 ~{2Y} (out), 7 GND (power), 8 ~{3Y} (out), 9 3 CONT (in), 10 3A (in), 11 ~{4Y} (out), 12 4 CONT (in), 13 4A (in), 14 VCC (power)

## SN75C189AN
designator U?
Quadruple Low-Power LIine Receiver, 0 to 70 degC, 14-Pin  PDIP (N),  Pb-Free (RoHS); SubFamily: RS-232; Receivers Per Package: 4; Supply Voltage(s)(V): 5; ICC(Max)(mA): 0.7; Single Supply: TRUE; DatasheetVersion: SLLS041G; PackageVersion: revE, Dec-2002; PackageReference: N14; PackageDescription: 14-Pin Plastic Dual-In-Line Package, Row Spacing 7.62 mm, Pitch 2.54 mm; RS-232: TRUE; ComponentLink1Description: Manufacturer URL; ComponentLink1URL: www.ti.com; ComponentLink2Description: Datasheet; ComponentLink2URL: http://www.ti.com/general/docs/lit/getliterature.tsp?genericPartNumber=SN75C189A&fileType=pdf; ComponentLink3Description: Package Specification; ComponentLink3URL: http://www.ti.com/litv/pdf/mpdi002c
footprint TI-N14 (DIP, 14-Leads, Row Spacing 7.62mm, Pitch 2.54mm, Body 19.3x6.4mm)
pins: 1 1A (in), 2 1 CONT (in), 3 ~{1Y} (out), 4 2A (in), 5 2 CONT (in), 6 ~{2Y} (out), 7 GND (power), 8 ~{3Y} (out), 9 3 CONT (in), 10 3A (in), 11 ~{4Y} (out), 12 4 CONT (in), 13 4A (in), 14 VCC (power)

## SN75C189ANE4
designator U?
Quadruple Low-Power LIine Receiver, 0 to 70 degC, 14-Pin  PDIP (N),  Pb-Free (RoHS); SubFamily: RS-232; Receivers Per Package: 4; Supply Voltage(s)(V): 5; ICC(Max)(mA): 0.7; Single Supply: TRUE; DatasheetVersion: SLLS041G; PackageVersion: revE, Dec-2002; PackageReference: N14; PackageDescription: 14-Pin Plastic Dual-In-Line Package, Row Spacing 7.62 mm, Pitch 2.54 mm; RS-232: TRUE; ComponentLink1Description: Manufacturer URL; ComponentLink1URL: www.ti.com; ComponentLink2Description: Datasheet; ComponentLink2URL: http://www.ti.com/general/docs/lit/getliterature.tsp?genericPartNumber=SN75C189A&fileType=pdf; ComponentLink3Description: Package Specification; ComponentLink3URL: http://www.ti.com/litv/pdf/mpdi002c
footprint TI-N14 (DIP, 14-Leads, Row Spacing 7.62mm, Pitch 2.54mm, Body 19.3x6.4mm)
pins: 1 1A (in), 2 1 CONT (in), 3 ~{1Y} (out), 4 2A (in), 5 2 CONT (in), 6 ~{2Y} (out), 7 GND (power), 8 ~{3Y} (out), 9 3 CONT (in), 10 3A (in), 11 ~{4Y} (out), 12 4 CONT (in), 13 4A (in), 14 VCC (power)

## SN75C189ANSR
designator U?
Quadruple Low-Power LIine Receiver, 0 to 70 degC, 14-Pin  SO (NS),  Green (RoHS & no Sb/Br); SubFamily: RS-232; Receivers Per Package: 4; Supply Voltage(s)(V): 5; ICC(Max)(mA): 0.7; Single Supply: TRUE; DatasheetVersion: SLLS041G; PackageVersion: revC, Mar-2003; PackageReference: NS14; PackageDescription: 14-Pin Plastic Small Outline Package, 10.2 x 5.3 mm Body, 1.27 mm Pitch; RS-232: TRUE; ComponentLink1Description: Manufacturer URL; ComponentLink1URL: www.ti.com; ComponentLink2Description: Datasheet; ComponentLink2URL: http://www.ti.com/general/docs/lit/getliterature.tsp?genericPartNumber=SN75C189A&fileType=pdf; ComponentLink3Description: Package Specification; ComponentLink3URL: http://www.ti.com/litv/pdf/msop002a
footprint TI-NS14_N (SOP, 14-Leads, Body 10.2x5.3mm, Pitch 1.27mm, IPC Medium Density)
footprint TI-NS14_L (SOP, 14-Leads, Body 10.2x5.3mm, Pitch 1.27mm, IPC High Density)
footprint TI-NS14_M (SOP, 14-Leads, Body 10.2x5.3mm, Pitch 1.27mm, IPC Low Density)
pins: 1 1A (in), 2 1 CONT (in), 3 ~{1Y} (out), 4 2A (in), 5 2 CONT (in), 6 ~{2Y} (out), 7 GND (power), 8 ~{3Y} (out), 9 3 CONT (in), 10 3A (in), 11 ~{4Y} (out), 12 4 CONT (in), 13 4A (in), 14 VCC (power)

## SN75C189ANSRE4
designator U?
Quadruple Low-Power LIine Receiver, 0 to 70 degC, 14-Pin  SO (NS),  Green (RoHS & no Sb/Br); SubFamily: RS-232; Receivers Per Package: 4; Supply Voltage(s)(V): 5; ICC(Max)(mA): 0.7; Single Supply: TRUE; DatasheetVersion: SLLS041G; PackageVersion: revC, Mar-2003; PackageReference: NS14; PackageDescription: 14-Pin Plastic Small Outline Package, 10.2 x 5.3 mm Body, 1.27 mm Pitch; RS-232: TRUE; ComponentLink1Description: Manufacturer URL; ComponentLink1URL: www.ti.com; ComponentLink2Description: Datasheet; ComponentLink2URL: http://www.ti.com/general/docs/lit/getliterature.tsp?genericPartNumber=SN75C189A&fileType=pdf; ComponentLink3Description: Package Specification; ComponentLink3URL: http://www.ti.com/litv/pdf/msop002a
footprint TI-NS14_N (SOP, 14-Leads, Body 10.2x5.3mm, Pitch 1.27mm, IPC Medium Density)
footprint TI-NS14_L (SOP, 14-Leads, Body 10.2x5.3mm, Pitch 1.27mm, IPC High Density)
footprint TI-NS14_M (SOP, 14-Leads, Body 10.2x5.3mm, Pitch 1.27mm, IPC Low Density)
pins: 1 1A (in), 2 1 CONT (in), 3 ~{1Y} (out), 4 2A (in), 5 2 CONT (in), 6 ~{2Y} (out), 7 GND (power), 8 ~{3Y} (out), 9 3 CONT (in), 10 3A (in), 11 ~{4Y} (out), 12 4 CONT (in), 13 4A (in), 14 VCC (power)

## SN75C189ANSRG4
designator U?
Quadruple Low-Power LIine Receiver, 0 to 70 degC, 14-Pin  SO (NS),  Green (RoHS & no Sb/Br); SubFamily: RS-232; Receivers Per Package: 4; Supply Voltage(s)(V): 5; ICC(Max)(mA): 0.7; Single Supply: TRUE; DatasheetVersion: SLLS041G; PackageVersion: revC, Mar-2003; PackageReference: NS14; PackageDescription: 14-Pin Plastic Small Outline Package, 10.2 x 5.3 mm Body, 1.27 mm Pitch; RS-232: TRUE; ComponentLink1Description: Manufacturer URL; ComponentLink1URL: www.ti.com; ComponentLink2Description: Datasheet; ComponentLink2URL: http://www.ti.com/general/docs/lit/getliterature.tsp?genericPartNumber=SN75C189A&fileType=pdf; ComponentLink3Description: Package Specification; ComponentLink3URL: http://www.ti.com/litv/pdf/msop002a
footprint TI-NS14_N (SOP, 14-Leads, Body 10.2x5.3mm, Pitch 1.27mm, IPC Medium Density)
footprint TI-NS14_L (SOP, 14-Leads, Body 10.2x5.3mm, Pitch 1.27mm, IPC High Density)
footprint TI-NS14_M (SOP, 14-Leads, Body 10.2x5.3mm, Pitch 1.27mm, IPC Low Density)
pins: 1 1A (in), 2 1 CONT (in), 3 ~{1Y} (out), 4 2A (in), 5 2 CONT (in), 6 ~{2Y} (out), 7 GND (power), 8 ~{3Y} (out), 9 3 CONT (in), 10 3A (in), 11 ~{4Y} (out), 12 4 CONT (in), 13 4A (in), 14 VCC (power)

## SN75C189D
designator U?
Quadruple Low-Power LIine Receiver, 0 to 70 degC, 14-Pin  SOIC (D),  Green (RoHS & no Sb/Br); SubFamily: RS-232; Receivers Per Package: 4; Supply Voltage(s)(V): 5; ICC(Max)(mA): 0.7; Single Supply: TRUE; DatasheetVersion: SLLS041G; PackageVersion: revM, Jun-2011; PackageReference: D14; PackageDescription: 14-Pin Plastic Small Outline Integrated Circuit, 8.7 x 3.9 mm, Pitch 1.27 mm Pitch; RS-232: TRUE; ComponentLink1Description: Manufacturer URL; ComponentLink1URL: www.ti.com; ComponentLink2Description: Datasheet; ComponentLink2URL: http://www.ti.com/general/docs/lit/getliterature.tsp?genericPartNumber=SN75C189&fileType=pdf; ComponentLink3Description: Package Specification; ComponentLink3URL: http://www.ti.com/litv/pdf/mpds177g
footprint TI-D14_N (SOIC, 14-Leads, Body 8.7x3.9mm, Pitch 1.27mm, IPC Medium Density)
footprint TI-D14_L (SOIC, 14-Leads, Body 8.7x3.9mm, Pitch 1.27mm, IPC High Density)
footprint TI-D14_M (SOIC, 14-Leads, Body 8.7x3.9mm, Pitch 1.27mm, IPC Low Density)
pins: 1 1A (in), 2 1 CONT (in), 3 ~{1Y} (out), 4 2A (in), 5 2 CONT (in), 6 ~{2Y} (out), 7 GND (power), 8 ~{3Y} (out), 9 3 CONT (in), 10 3A (in), 11 ~{4Y} (out), 12 4 CONT (in), 13 4A (in), 14 VCC (power)

## SN75C189DE4
designator U?
Quadruple Low-Power LIine Receiver, 0 to 70 degC, 14-Pin  SOIC (D),  Green (RoHS & no Sb/Br); SubFamily: RS-232; Receivers Per Package: 4; Supply Voltage(s)(V): 5; ICC(Max)(mA): 0.7; Single Supply: TRUE; DatasheetVersion: SLLS041G; PackageVersion: revM, Jun-2011; PackageReference: D14; PackageDescription: 14-Pin Plastic Small Outline Integrated Circuit, 8.7 x 3.9 mm, Pitch 1.27 mm Pitch; RS-232: TRUE; ComponentLink1Description: Manufacturer URL; ComponentLink1URL: www.ti.com; ComponentLink2Description: Datasheet; ComponentLink2URL: http://www.ti.com/general/docs/lit/getliterature.tsp?genericPartNumber=SN75C189&fileType=pdf; ComponentLink3Description: Package Specification; ComponentLink3URL: http://www.ti.com/litv/pdf/mpds177g
footprint TI-D14_N (SOIC, 14-Leads, Body 8.7x3.9mm, Pitch 1.27mm, IPC Medium Density)
footprint TI-D14_L (SOIC, 14-Leads, Body 8.7x3.9mm, Pitch 1.27mm, IPC High Density)
footprint TI-D14_M (SOIC, 14-Leads, Body 8.7x3.9mm, Pitch 1.27mm, IPC Low Density)
pins: 1 1A (in), 2 1 CONT (in), 3 ~{1Y} (out), 4 2A (in), 5 2 CONT (in), 6 ~{2Y} (out), 7 GND (power), 8 ~{3Y} (out), 9 3 CONT (in), 10 3A (in), 11 ~{4Y} (out), 12 4 CONT (in), 13 4A (in), 14 VCC (power)

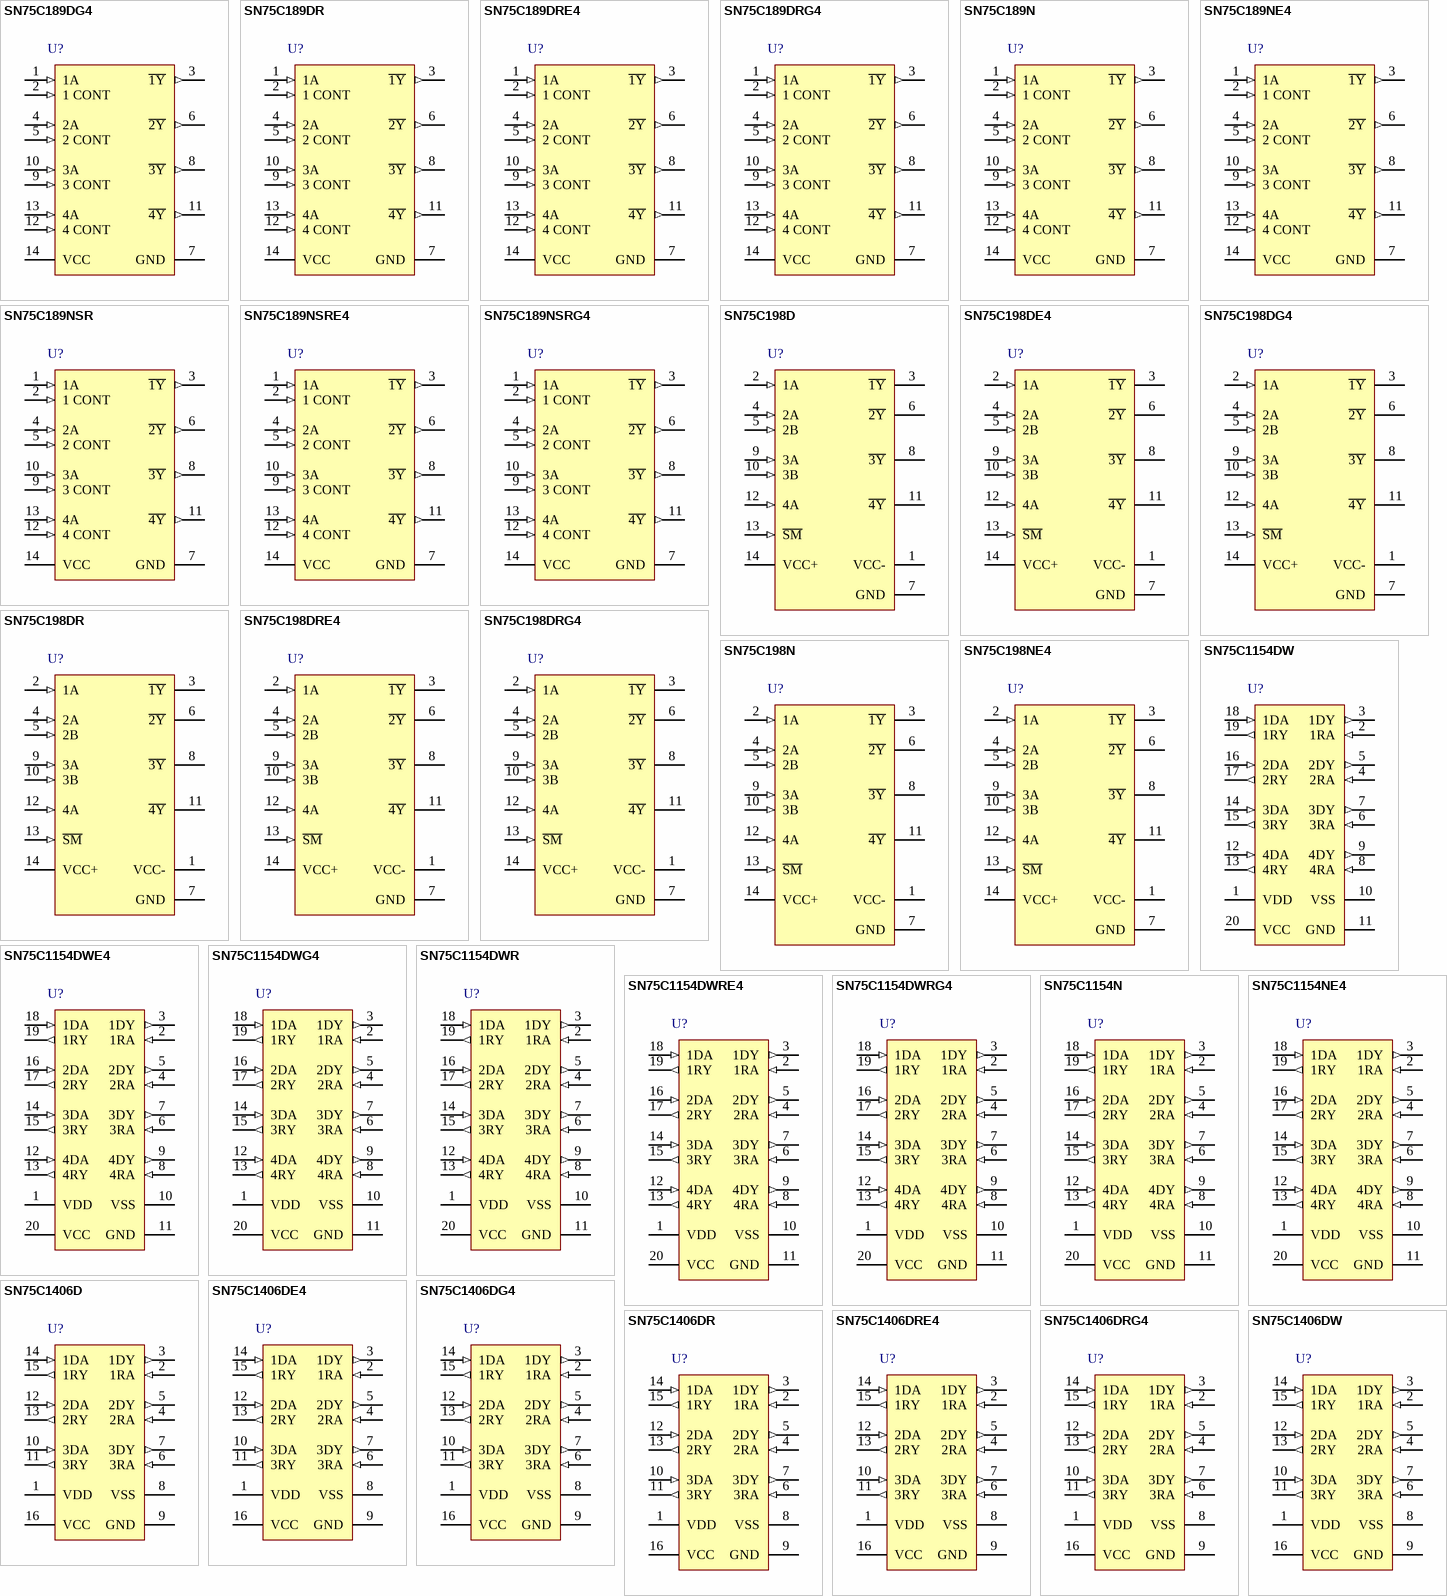
[diagram p30: symbols SN75C189DG4 to SN75C1406DW]

## SN75C189DG4
designator U?
Quadruple Low-Power LIine Receiver, 0 to 70 degC, 14-Pin  SOIC (D),  Green (RoHS & no Sb/Br); SubFamily: RS-232; Receivers Per Package: 4; Supply Voltage(s)(V): 5; ICC(Max)(mA): 0.7; Single Supply: TRUE; DatasheetVersion: SLLS041G; PackageVersion: revM, Jun-2011; PackageReference: D14; PackageDescription: 14-Pin Plastic Small Outline Integrated Circuit, 8.7 x 3.9 mm, Pitch 1.27 mm Pitch; RS-232: TRUE; ComponentLink1Description: Manufacturer URL; ComponentLink1URL: www.ti.com; ComponentLink2Description: Datasheet; ComponentLink2URL: http://www.ti.com/general/docs/lit/getliterature.tsp?genericPartNumber=SN75C189&fileType=pdf; ComponentLink3Description: Package Specification; ComponentLink3URL: http://www.ti.com/litv/pdf/mpds177g
footprint TI-D14_N (SOIC, 14-Leads, Body 8.7x3.9mm, Pitch 1.27mm, IPC Medium Density)
footprint TI-D14_L (SOIC, 14-Leads, Body 8.7x3.9mm, Pitch 1.27mm, IPC High Density)
footprint TI-D14_M (SOIC, 14-Leads, Body 8.7x3.9mm, Pitch 1.27mm, IPC Low Density)
pins: 1 1A (in), 2 1 CONT (in), 3 ~{1Y} (out), 4 2A (in), 5 2 CONT (in), 6 ~{2Y} (out), 7 GND (power), 8 ~{3Y} (out), 9 3 CONT (in), 10 3A (in), 11 ~{4Y} (out), 12 4 CONT (in), 13 4A (in), 14 VCC (power)

## SN75C189DR
designator U?
Quadruple Low-Power LIine Receiver, 0 to 70 degC, 14-Pin  SOIC (D),  Green (RoHS & no Sb/Br); SubFamily: RS-232; Receivers Per Package: 4; Supply Voltage(s)(V): 5; ICC(Max)(mA): 0.7; Single Supply: TRUE; DatasheetVersion: SLLS041G; PackageVersion: revM, Jun-2011; PackageReference: D14; PackageDescription: 14-Pin Plastic Small Outline Integrated Circuit, 8.7 x 3.9 mm, Pitch 1.27 mm Pitch; RS-232: TRUE; ComponentLink1Description: Manufacturer URL; ComponentLink1URL: www.ti.com; ComponentLink2Description: Datasheet; ComponentLink2URL: http://www.ti.com/general/docs/lit/getliterature.tsp?genericPartNumber=SN75C189&fileType=pdf; ComponentLink3Description: Package Specification; ComponentLink3URL: http://www.ti.com/litv/pdf/mpds177g
footprint TI-D14_N (SOIC, 14-Leads, Body 8.7x3.9mm, Pitch 1.27mm, IPC Medium Density)
footprint TI-D14_L (SOIC, 14-Leads, Body 8.7x3.9mm, Pitch 1.27mm, IPC High Density)
footprint TI-D14_M (SOIC, 14-Leads, Body 8.7x3.9mm, Pitch 1.27mm, IPC Low Density)
pins: 1 1A (in), 2 1 CONT (in), 3 ~{1Y} (out), 4 2A (in), 5 2 CONT (in), 6 ~{2Y} (out), 7 GND (power), 8 ~{3Y} (out), 9 3 CONT (in), 10 3A (in), 11 ~{4Y} (out), 12 4 CONT (in), 13 4A (in), 14 VCC (power)

## SN75C189DRE4
designator U?
Quadruple Low-Power LIine Receiver, 0 to 70 degC, 14-Pin  SOIC (D),  Green (RoHS & no Sb/Br); SubFamily: RS-232; Receivers Per Package: 4; Supply Voltage(s)(V): 5; ICC(Max)(mA): 0.7; Single Supply: TRUE; DatasheetVersion: SLLS041G; PackageVersion: revM, Jun-2011; PackageReference: D14; PackageDescription: 14-Pin Plastic Small Outline Integrated Circuit, 8.7 x 3.9 mm, Pitch 1.27 mm Pitch; RS-232: TRUE; ComponentLink1Description: Manufacturer URL; ComponentLink1URL: www.ti.com; ComponentLink2Description: Datasheet; ComponentLink2URL: http://www.ti.com/general/docs/lit/getliterature.tsp?genericPartNumber=SN75C189&fileType=pdf; ComponentLink3Description: Package Specification; ComponentLink3URL: http://www.ti.com/litv/pdf/mpds177g
footprint TI-D14_N (SOIC, 14-Leads, Body 8.7x3.9mm, Pitch 1.27mm, IPC Medium Density)
footprint TI-D14_L (SOIC, 14-Leads, Body 8.7x3.9mm, Pitch 1.27mm, IPC High Density)
footprint TI-D14_M (SOIC, 14-Leads, Body 8.7x3.9mm, Pitch 1.27mm, IPC Low Density)
pins: 1 1A (in), 2 1 CONT (in), 3 ~{1Y} (out), 4 2A (in), 5 2 CONT (in), 6 ~{2Y} (out), 7 GND (power), 8 ~{3Y} (out), 9 3 CONT (in), 10 3A (in), 11 ~{4Y} (out), 12 4 CONT (in), 13 4A (in), 14 VCC (power)

## SN75C189DRG4
designator U?
Quadruple Low-Power LIine Receiver, 0 to 70 degC, 14-Pin  SOIC (D),  Green (RoHS & no Sb/Br); SubFamily: RS-232; Receivers Per Package: 4; Supply Voltage(s)(V): 5; ICC(Max)(mA): 0.7; Single Supply: TRUE; DatasheetVersion: SLLS041G; PackageVersion: revM, Jun-2011; PackageReference: D14; PackageDescription: 14-Pin Plastic Small Outline Integrated Circuit, 8.7 x 3.9 mm, Pitch 1.27 mm Pitch; RS-232: TRUE; ComponentLink1Description: Manufacturer URL; ComponentLink1URL: www.ti.com; ComponentLink2Description: Datasheet; ComponentLink2URL: http://www.ti.com/general/docs/lit/getliterature.tsp?genericPartNumber=SN75C189&fileType=pdf; ComponentLink3Description: Package Specification; ComponentLink3URL: http://www.ti.com/litv/pdf/mpds177g
footprint TI-D14_N (SOIC, 14-Leads, Body 8.7x3.9mm, Pitch 1.27mm, IPC Medium Density)
footprint TI-D14_L (SOIC, 14-Leads, Body 8.7x3.9mm, Pitch 1.27mm, IPC High Density)
footprint TI-D14_M (SOIC, 14-Leads, Body 8.7x3.9mm, Pitch 1.27mm, IPC Low Density)
pins: 1 1A (in), 2 1 CONT (in), 3 ~{1Y} (out), 4 2A (in), 5 2 CONT (in), 6 ~{2Y} (out), 7 GND (power), 8 ~{3Y} (out), 9 3 CONT (in), 10 3A (in), 11 ~{4Y} (out), 12 4 CONT (in), 13 4A (in), 14 VCC (power)